# Altium footprint library QFN28_UDE_3x6mm.PcbLib: 1 footprints
Each footprint in its own frame and in the unit in brackets; x right, y up, seen from the top. Pads: shape width x height; smd on the part's side, far side on the other; paste and mask are expansions set on the pad; w line width, h text height; cw(c..) or ccw(c..) is an arc to the next point about the centre after c.
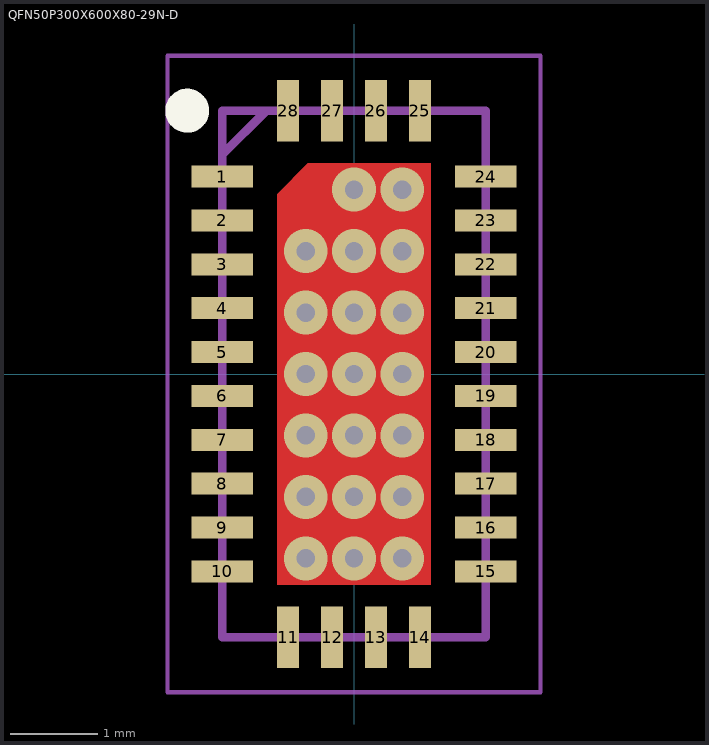
[diagram p0: the footprint, top view; thin cyan lines are the x and y axes]

## QFN50P300X600X80-29N-D [mm]
pads (29):
  rect 0.7x0.25 smd mask+0.05: 1(-1.5,2.25) 2(-1.5,1.75) 3(-1.5,1.25) 4(-1.5,0.75) 5(-1.5,0.25) 6(-1.5,-0.25) 7(-1.5,-0.75) 8(-1.5,-1.25) 9(-1.5,-1.75) 10(-1.5,-2.25) 15(1.5,-2.25) 16(1.5,-1.75) 17(1.5,-1.25) 18(1.5,-0.75) 19(1.5,-0.25) 20(1.5,0.25) 21(1.5,0.75) 22(1.5,1.25) 23(1.5,1.75) 24(1.5,2.25)
  rect 0.25x0.7 smd mask+0.05: 11(-0.75,-3) 12(-0.25,-3) 13(0.25,-3) 14(0.75,-3) 25(0.75,3) 26(0.25,3) 27(-0.25,3) 28(-0.75,3)
  round 0.025 smd mask+0.05: 29(0,0)
via 0.55,-2.1 diameter 0.5 hole 0.21
via -0.55,-2.1 diameter 0.5 hole 0.21
via 0,-2.1 diameter 0.5 hole 0.21
via 0.55,-1.4 diameter 0.5 hole 0.21
via -0.55,-1.4 diameter 0.5 hole 0.21
via 0,-1.4 diameter 0.5 hole 0.21
via 0.55,-0.7 diameter 0.5 hole 0.21
via -0.55,-0.7 diameter 0.5 hole 0.21
via 0,-0.7 diameter 0.5 hole 0.21
via 0.55,2.1 diameter 0.5 hole 0.21
via 0,2.1 diameter 0.5 hole 0.21
via 0.55,1.4 diameter 0.5 hole 0.21
via -0.55,1.4 diameter 0.5 hole 0.21
via 0,1.4 diameter 0.5 hole 0.21
via 0.55,0.7 diameter 0.5 hole 0.21
via -0.55,0.7 diameter 0.5 hole 0.21
via 0,0.7 diameter 0.5 hole 0.21
via 0.55,0 diameter 0.5 hole 0.21
via -0.55,0 diameter 0.5 hole 0.21
via 0,0 diameter 0.5 hole 0.21
Top Layer:
  region: 0.875,2.4 0.875,-2.4 -0.875,-2.4 -0.875,2.05 -0.525,2.4
Top Overlay:
  circle w0.25: c-1.9,3 r0.125
Mechanical 13:
  lines w0.1: -1.5,2.5 -1,3 ; -1.5,-3 1.5,-3 1.5,3 -1.5,3 -1.5,-3
Mechanical 15:
  lines w0.05: -2.125,-3.625 2.125,-3.625 2.125,3.625 -2.125,3.625 -2.125,-3.625
3D body "LT8616EUDE#PBF.stp": height 0.8, standoff 0, extent -1.55,-3.05 1.55,3.05